# EAGLE library part 74S189 (library 74S189)
74S189
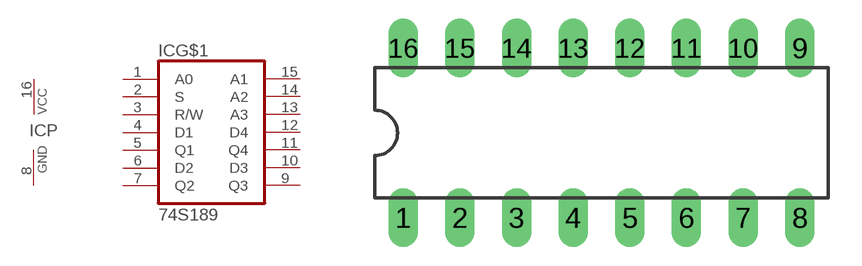
[diagram p0: symbol with the pads of DIL16; footprint DIL16]

Designator prefix IC; gates G$1=74S189S P=PWRN

## 74S189  [DIL16]
1  G$1:A0
2  G$1:S
3  G$1:R/W
4  G$1:D1
5  G$1:Q1
6  G$1:D2
7  G$1:Q2
8  P:GND  pwr
9  G$1:Q3
10  G$1:D3
11  G$1:Q4
12  G$1:D4
13  G$1:A3
14  G$1:A2
15  G$1:A1
16  P:VCC  pwr

## Footprint DIL16 (pad centres in mm)
Dual In Line Package
drill 0.813 long: 1 -8.89,-3.81; 2 -6.35,-3.81; 3 -3.81,-3.81; 4 -1.27,-3.81; 5 1.27,-3.81; 6 3.81,-3.81; 7 6.35,-3.81; 8 8.89,-3.81; 9 8.89,3.81; 10 6.35,3.81; 11 3.81,3.81; 12 1.27,3.81; 13 -1.27,3.81; 14 -3.81,3.81; 15 -6.35,3.81; 16 -8.89,3.81